# EAGLE library part BQ24193 (library df4iah_powersupply)
TI BQ24193 I2C Controlled 4.5-A Single Cell USB/Adapter Charger with Narrow VDC Power Path Management and USB OTG
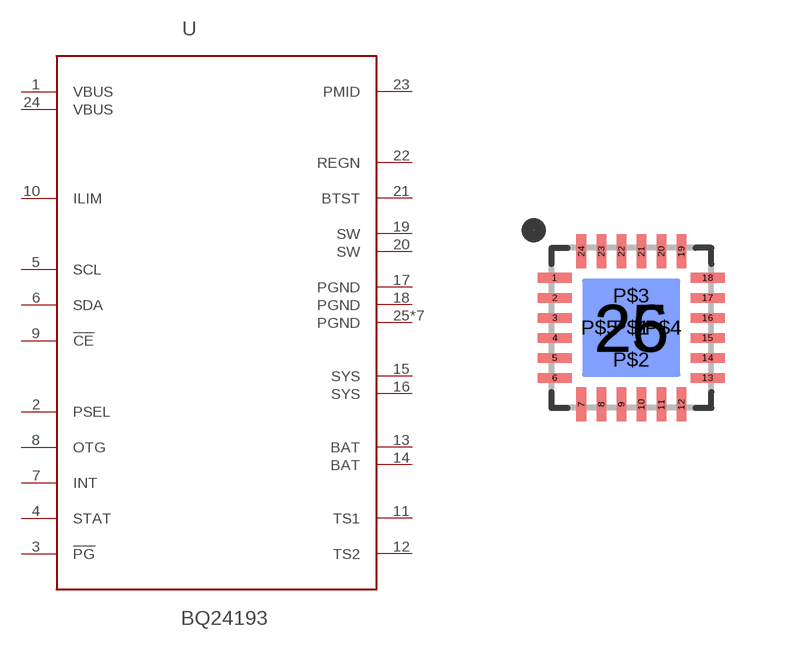
[diagram p4: symbol with the pads of VQFN-24; footprint VQFN-24]

Designator prefix U

## BQ24193  [VQFN-24]
1  VBUS  pwr
2  PSEL  in
3  !PG  out
4  STAT  out
5  SCL  in
6  SDA
7  INT  out
8  OTG  in
9  !CE  in
10  ILIM  pas
11  TS1  pas
12  TS2  pas
13  BAT  pas
14  BAT  pas
15  SYS  sup
16  SYS  sup
17  PGND  pas
18  PGND  pas
19  SW  pas
20  SW  pas
21  BTST  pas
22  REGN  pas
23  PMID  pas
24  VBUS  pwr
25  PGND  pas
26  PGND  pas
P$1  PGND  pas
P$2  PGND  pas
P$3  PGND  pas
P$4  PGND  pas
P$5  PGND  pas

## Footprint VQFN-24 (pad centres in mm)
VQFN(24) Body: 4.00 mm x 4.00 mm Pitch: 0.5 mm
smd 0.85 x 0.24: 1 -1.913,1.25; 2 -1.913,0.75; 3 -1.913,0.25; 4 -1.913,-0.25; 5 -1.913,-0.75; 6 -1.913,-1.25; 13 1.913,-1.25; 14 1.913,-0.75; 15 1.913,-0.25; 16 1.913,0.25; 17 1.913,0.75; 18 1.913,1.25
smd 0.24 x 0.85: 7 -1.25,-1.913; 8 -0.75,-1.913; 9 -0.25,-1.913; 10 0.25,-1.913; 11 0.75,-1.913; 12 1.25,-1.913; 19 1.25,1.913; 20 0.75,1.913; 21 0.25,1.913; 22 -0.25,1.913; 23 -0.75,1.913; 24 -1.25,1.913
smd 2.45 x 2.45: 25 0,0
smd 2.45 x 2.45 bottom: 26 0,0
drill 0.305: P$1 0,0; P$2 0,-0.8; P$3 0,0.8; P$4 0.8,0; P$5 -0.8,0